# Altium footprint library SOD-323 inverted.PcbLib: 1 footprints
Each footprint in its own frame and in the unit in brackets; x right, y up, seen from the top. Pads: shape width x height; smd on the part's side, far side on the other; paste and mask are expansions set on the pad; w line width, h text height; cw(c..) or ccw(c..) is an arc to the next point about the centre after c.
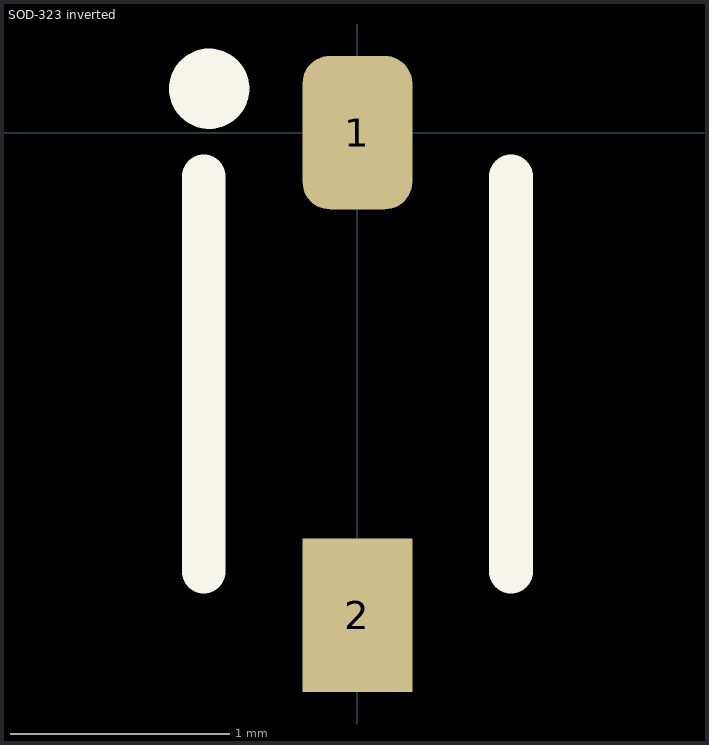
[diagram p0: the footprint, top view; thin cyan lines are the x and y axes]

## SOD-323 inverted [mm] "SC-76 plastic surface mounted package; 2 leads"
height 1
pads (2):
  rrect50% 0.5x0.7 smd: 1(0,0)
  rect 0.5x0.7 smd: 2(0,-2.2)
Top Overlay:
  circle w0.254: c-0.675,0.2 r0.056
  lines w0.2: -0.7,-2 -0.7,-0.2 ; 0.7,-2 0.7,-0.2
3D body "SOD323.STEP": height 0, standoff -1.1, extent -0.675,-2.4 0.675,0.2